# EAGLE library part PCA9538 (library packages(ti))
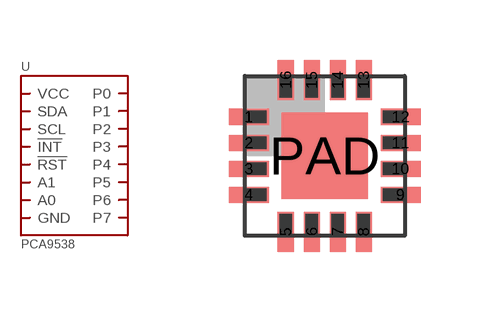
[diagram p29: symbol with the pads of RGV.16; footprint RGV.16]

Designator prefix U

## PCA9538.RGV  [RGV.16]
1  !RST
2  P0
3  P1
4  P2
5  P3
6  GND
7  P4
8  P5
9  P6
10  P7
11  !INT
12  SCL
13  SDA
14  VCC
15  A0
16  A1
PAD  GND

## Footprint RGV.16 (pad centres in mm)
smd 1 x 0.4: 1 -1.9,0.975; 2 -1.9,0.325; 3 -1.9,-0.325; 4 -1.9,-0.975; 9 1.9,-0.975; 10 1.9,-0.325; 11 1.9,0.325; 12 1.9,0.975
smd 0.4 x 1: 5 -0.975,-1.9; 6 -0.325,-1.9; 7 0.325,-1.9; 8 0.975,-1.9; 13 0.975,1.9; 14 0.325,1.9; 15 -0.325,1.9; 16 -0.975,1.9
smd 2.16 x 2.16: PAD 0,0